# EAGLE library part MCP23017_I/O_EXPANDER (library e-radionica_E-R MADE)
SKU: 100070 The MCP23017 is a device that adds 16 new digital inputs or outputs to a microcontroller using I2C communication, so it does not even use new pins on a microcontroller assuming you have other I2C devices. This breakout makes it easy to use this chip with a standard I2C connector and pins that can be connected to a breadboard. Thanks to the jumper on the board, it is possible to change the I2C address of the device and connect as many as 8 breakouts to one microcontroller. This would mean that you can get a maximum of 128 inputs/outputs out of 2 pins. There are also interrupt pins for the time precision changes of the pin states. All pins have built-in pull-up resistors that can be switched on or off. • Voltage: 1.8V - 5.5V • Maximum current per pin: 25mA • Communication: I2C • Pin number: 16 • Comes with a 20-pin header
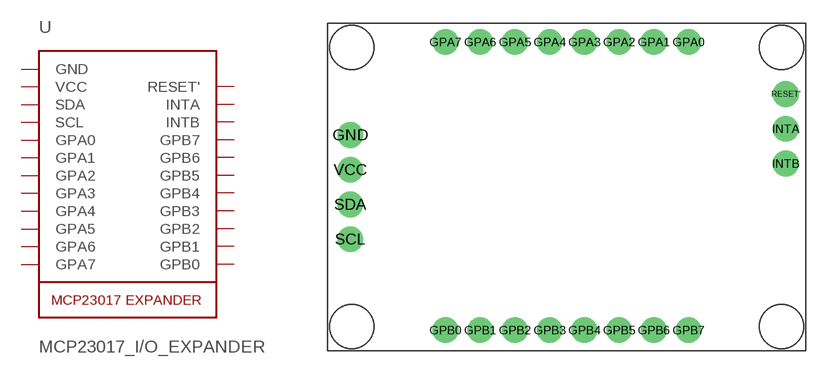
[diagram p6: symbol with the pads of MCP23017_I/O_EXPANDER; footprint MCP23017_I/O_EXPANDER]

Designator prefix -

## MCP23017_I/O_EXPANDER  [MCP23017_I/O_EXPANDER]
GND  GND  sup
GPA0  GPA0
GPA1  GPA1
GPA2  GPA2
GPA3  GPA3
GPA4  GPA4
GPA5  GPA5
GPA6  GPA6
GPA7  GPA7
GPB0  GPB0
GPB1  GPB1
GPB2  GPB2
GPB3  GPB3
GPB4  GPB4
GPB5  GPB5
GPB6  GPB6
GPB7  GPB7
INTA  INTA
INTB  INTB
RESET'  RESET'
SCL  SCL
SDA  SDA
VCC  VCC  sup

## Footprint MCP23017_I/O_EXPANDER (pad centres in mm)
drill 1.016 pad 1.88: GND 1.676,15.799; GPA0 26.416,22.606; GPA1 23.876,22.606; GPA2 21.336,22.606; GPA3 18.796,22.606; GPA4 16.256,22.606; GPA5 13.716,22.606; GPA6 11.176,22.606; GPA7 8.636,22.606; GPB0 8.636,1.524; GPB1 11.176,1.524; GPB2 13.716,1.524; GPB3 16.256,1.524; GPB4 18.796,1.524; GPB5 21.336,1.524; GPB6 23.876,1.524; GPB7 26.416,1.524; INTA 33.528,16.256; INTB 33.528,13.716; RESET' 33.528,18.796; SCL 1.676,8.179; SDA 1.676,10.719; VCC 1.676,13.259